# Altium schematic symbol library SG5032CAN.SchLib: 1 symbol
Pins are listed as number, name and electrical type; pins without a type are passive.

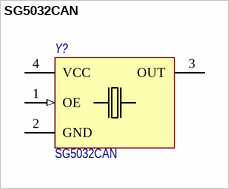
[diagram p0: symbol SG5032СAN]

## SG5032СAN
designator Y?  Наименование: SG5032CAN  (hidden comment: SG5032СAN)
Crystal oscillator, CMOS; Потребление, Вт: 0.07; Назначение: Crystal oscillator, CMOS; ComponentLink1Description: DataSheet; ComponentLink1URL: https://ru.mouser.com/datasheet/2/137/SG3225EAN_en-961615.pdf; Supplier 1: Digi-Key; Supplier Part Number 1: SER3979CT-ND
footprint VCO_4_50x32 (SON, 4-Leads, Body 5,00x3,20mm, Pitch 1,27mm, IPC Medium Density)
pins: 1 OE (in), 2 GND (power), 3 OUT "Frequency signal out", 4 VCC (power)